# Altium footprint library PcbLib1.PcbLib: 12 footprints
Each footprint in its own frame and in the unit in brackets; x right, y up, seen from the top. Pads: shape width x height; smd on the part's side, far side on the other; paste and mask are expansions set on the pad; w line width, h text height; cw(c..) or ccw(c..) is an arc to the next point about the centre after c.
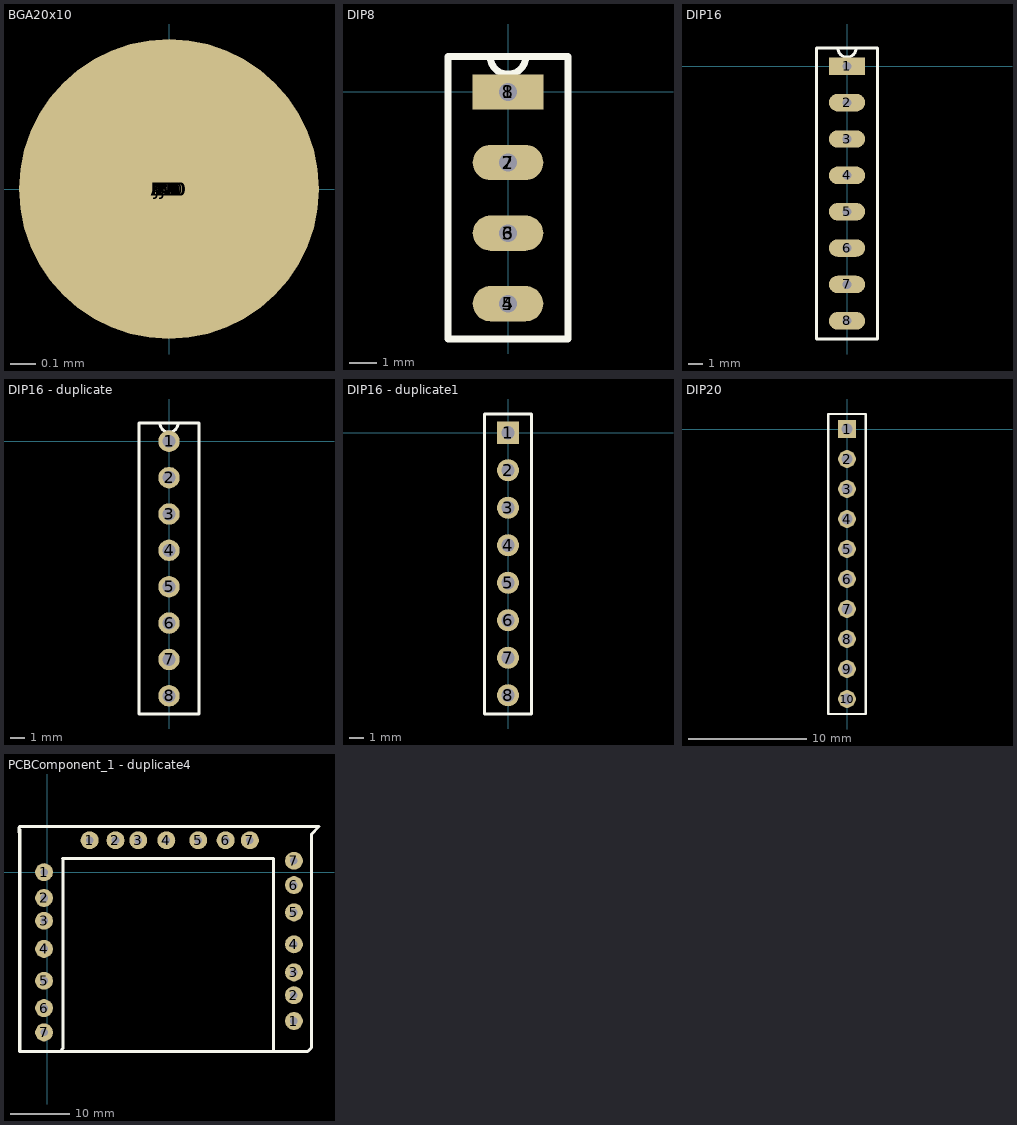
[diagram p0: the footprints below, top view; thin cyan lines are the x and y axes]

## BGA20x10 [mm]
pads (20):
  round 1.2 smd: A1(0,0) A2(0,0) A5(0,0) A6(0,0) A9(0,0) A10(0,0) B1(0,0) B10(0,0) E1(0,0) E10(0,0) F1(0,0) F10(0,0) J1(0,0) J10(0,0) K1(0,0) K2(0,0) K5(0,0) K6(0,0) K9(0,0) K10(0,0)

## DIP8 [mm]
pads (8):
  rect 2.54x1.27 hole 0.635: 1(0,0)
  oval 2.54x1.27 hole 0.635: 2(0,-2.54) 3(0,-5.08) 4(0,-7.62) 5(0,-7.62) 6(0,-5.08) 7(0,-2.54) 8(0,0)
Top Overlay:
  lines w0.254: -2.159,-8.89 -2.159,1.27 0.635,1.27 cw(c0,1.27) -0.635,1.27 2.159,1.27 2.159,-8.89 -2.159,-8.89

## DIP16 [mm]
pads (8):
  rect 2.5x1.2 hole 0.6: 1(0,0)
  oval 2.5x1.2 hole 0.6: 2(0,-2.5) 3(0,-5) 4(0,-7.5) 5(0,-10) 6(0,-12.5) 7(0,-15) 8(0,-17.5)
Top Overlay:
  lines w0.2: -2.085,-18.75 -2.085,1.25 0.625,1.25 cw(c0,1.25) -0.625,1.25 2.085,1.25 2.085,-18.75 -2.085,-18.75

## DIP16 - duplicate [mm]
pads (8):
  round 1.5 hole 0.9: 1(0,0) 2(0,-2.54) 3(0,-5.08) 4(0,-7.62) 5(0,-10.16) 6(0,-12.7) 7(0,-15.24) 8(0,-17.78)
Top Overlay:
  lines w0.2: -2.085,-19.05 -2.085,1.27 0.635,1.27 cw(c0,1.27) -0.635,1.27 2.085,1.27 2.085,-19.05 -2.085,-19.05

## DIP16 - duplicate1 [mm]
pads (8):
  rect 1.5x1.5 hole 0.9: 1(0,0)
  round 1.5 hole 0.9: 2(0,-2.54) 3(0,-5.08) 4(0,-7.62) 5(0,-10.16) 6(0,-12.7) 7(0,-15.24) 8(0,-17.78)
Top Overlay:
  lines w0.2: -0.635,1.27 1.585,1.27 1.585,-19.05 -1.585,-19.05 -1.585,1.27 0.635,1.27

## DIP20 [mm]
pads (10):
  rect 1.5x1.5 hole 0.9: 1(0,0)
  round 1.5 hole 0.9: 2(0,-2.54) 3(0,-5.08) 4(0,-7.62) 5(0,-10.16) 6(0,-12.7) 7(0,-15.24) 8(0,-17.78) 9(0,-20.32) 10(0,-22.86)
Top Overlay:
  lines w0.2: -0.635,1.27 1.585,1.27 1.585,-24.13 -1.585,-24.13 -1.585,1.27 0.635,1.27

## PCBComponent_1 [mm]

## PCBComponent_1 - duplicate [mm]

## PCBComponent_1 - duplicate1 [mm]

## PCBComponent_1 - duplicate2 [mm]

## PCBComponent_1 - duplicate3 [mm]

## PCBComponent_1 - duplicate4 [mm]
pads (21):
  round 3 hole 1.273 unplated: 1(-0.508,0) 1(7.112,5.334) 1(41.275,-24.892) 2(-0.508,-4.318) 2(11.43,5.334) 2(41.275,-20.574) 3(-0.508,-8.128) 3(15.24,5.334) 3(41.275,-16.764) 4(-0.508,-12.827) 4(19.939,5.334) 4(41.275,-12.065) 5(-0.508,-18.161) 5(25.273,5.334) 5(41.275,-6.731) 6(-0.508,-22.733) 6(29.845,5.334) 6(41.275,-2.159) 7(-0.508,-26.797) 7(33.909,5.334) 7(41.275,1.905)
Top Overlay:
  lines w0.508: -4.572,6.477 -4.699,6.604 -4.699,7.493 -4.572,7.62 45.466,7.62 44.196,6.35 44.196,-29.337 43.561,-29.972 -4.572,-29.972 -4.572,7.112 ; 2.159,-29.972 2.667,-29.464 2.667,2.032 ; 2.54,2.286 37.846,2.286 37.846,-29.718 37.592,-29.972